# Altium footprint library LEDRD100W25D118H196.PcbLib: 1 footprints
Each footprint in its own frame and in the unit in brackets; x right, y up, seen from the top. Pads: shape width x height; smd on the part's side, far side on the other; paste and mask are expansions set on the pad; w line width, h text height; cw(c..) or ccw(c..) is an arc to the next point about the centre after c.
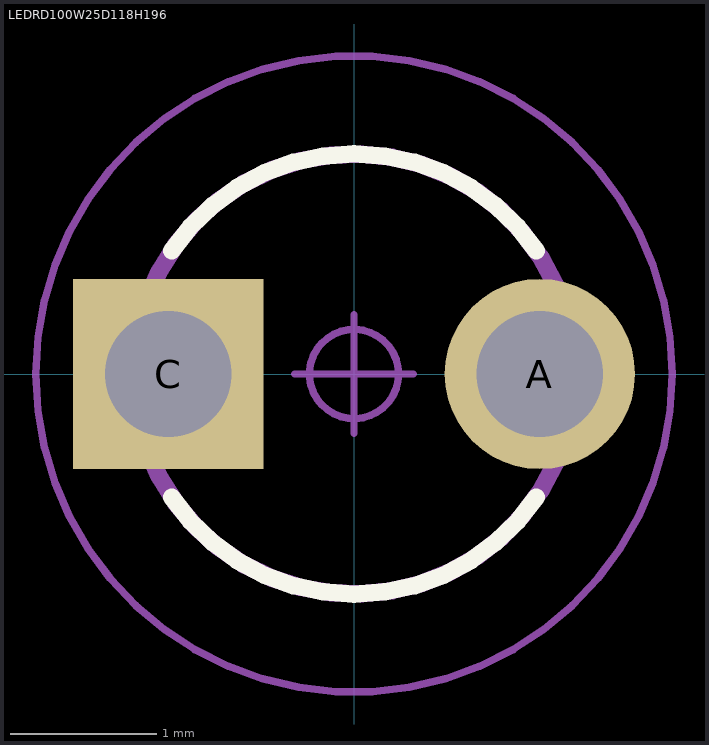
[diagram p0: the footprint, top view; thin cyan lines are the x and y axes]

## LEDRD100W25D118H196 [mil] "Radial (LED); 100 mil C X 118.1 mil Dia X 196.9 mil H body"
height 196.9
pads (2):
  round 51.2 hole 34 paste-51.2: A(50,0)
  rect 51.2x51.2 hole 34 paste-51.2: C(-50,0)
Top Overlay:
  lines w4.7: -49.08,-33.1 ccw(c0,0) 49.08,-33.1 ; -49.08,33.1 cw(c0,0) 49.08,33.1
Mechanical 11:
  circle w4.7: c0,0 r59.2
Mechanical 12:
  circle w1: c0,0 r59.05
  circle w1: c50,0 r13
  circle w1: c-50,0 r13
Mechanical 15:
  circle w2: c0,0 r12
  circle w2: c0,0 r85.6
  lines w2: -16,0 16,0 ; 0,-16 0,16
Mechanical 16:
  text ".Designator" at 0,0 h47.2
3D body: height 196.9, standoff -78.74, extent -62.5,-59.05 62.5,59.05